# Altium schematic symbol library SCH - CONNECTOR - 2 PIN.SchLib: 1 symbol
Pins are listed as number, name and electrical type; pins without a type are passive.

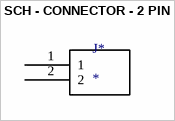
[diagram p0: symbol SCH - CONNECTOR - 2 PIN]

## SCH - CONNECTOR - 2 PIN
designator J*
pins: 1, 2